# Altium schematic symbol library component.SchLib: 14 symbols
Pins are listed as number, name and electrical type; pins without a type are passive.

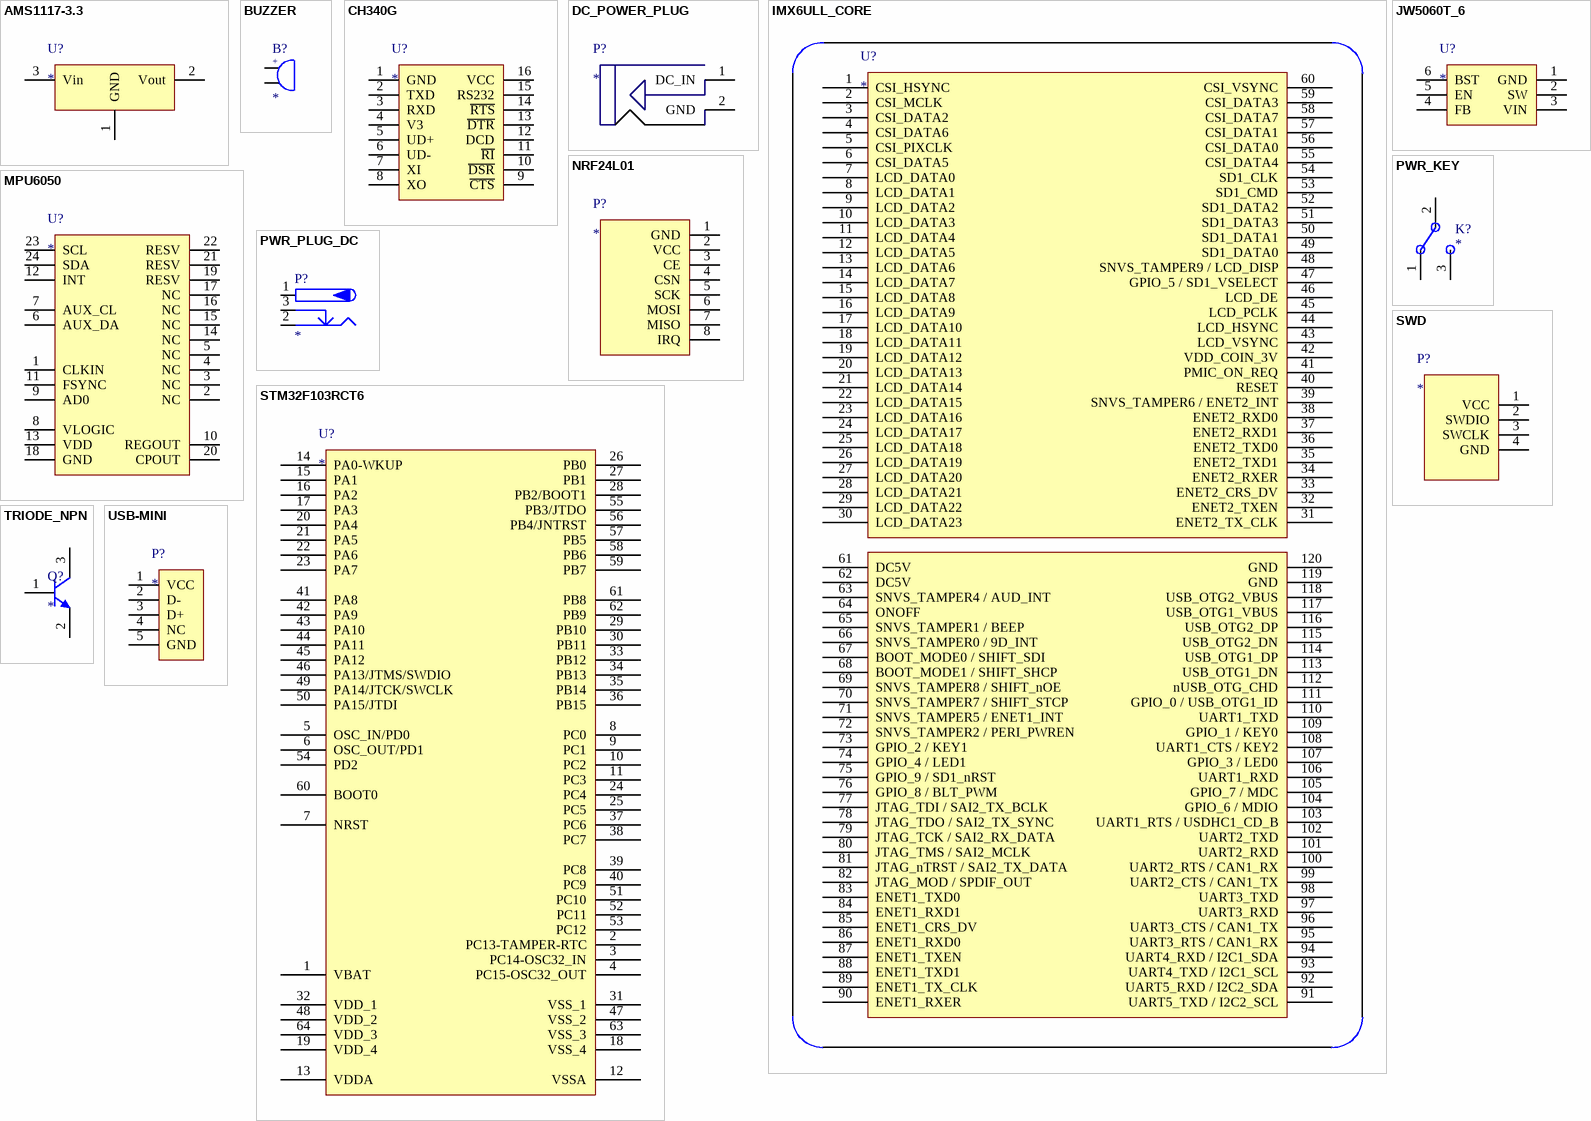
[diagram p0: symbols AMS1117-3.3 to USB-MINI]

## AMS1117-3.3
designator U?
pins: 1 GND, 2 Vout, 3 Vin

## BUZZER
designator B?
BOM名称: 蜂鸣器; 版权归属: 源创客; 学习资源: www.ooocke.com
footprint BEEP 6.5x12x6 (6.5*12*6mm(脚距,直径,高度))
footprint BEEP 5x9x5.5 (5*9*5.5mm(脚距,直径,高度))
footprint BEEP 6.5x12x8.5 (6.5*12*8.5mm(脚距,直径,高度))
footprint BEEP 7.6X12X7.5 (6.5*12*7.5mm(脚距,直径,高度))
footprint BEEP 7.6X12X9.5 (6.5*12*9.5mm(脚距,直径,高度))
pins: 1, 2
text: +

## CH340G
designator U?
pins: 1 GND, 2 TXD, 3 RXD, 4 V3, 5 UD+, 6 UD-, 7 XI, 8 XO, 9 ~{CTS}, 10 ~{DSR}, 11 ~{RI}, 12 DCD, 13 ~{DTR}, 14 ~{RTS}, 15 RS232, 16 VCC

## DC_POWER_PLUG
designator P?
pins: 1 DC_IN, 2 GND

## IMX6ULL_CORE
designator U?
pins: 1 CSI_HSYNC, 2 CSI_MCLK, 3 CSI_DATA2, 4 CSI_DATA6, 5 CSI_PIXCLK, 6 CSI_DATA5, 7 LCD_DATA0, 8 LCD_DATA1, 9 LCD_DATA2, 10 LCD_DATA3, 11 LCD_DATA4, 12 LCD_DATA5, 13 LCD_DATA6, 14 LCD_DATA7, 15 LCD_DATA8, 16 LCD_DATA9, 17 LCD_DATA10, 18 LCD_DATA11, 19 LCD_DATA12, 20 LCD_DATA13, 21 LCD_DATA14, 22 LCD_DATA15, 23 LCD_DATA16, 24 LCD_DATA17, 25 LCD_DATA18, 26 LCD_DATA19, 27 LCD_DATA20, 28 LCD_DATA21, 29 LCD_DATA22, 30 LCD_DATA23, 31 ENET2_TX_CLK, 32 ENET2_TXEN, 33 ENET2_CRS_DV, 34 ENET2_RXER, 35 ENET2_TXD1, 36 ENET2_TXD0, 37 ENET2_RXD1, 38 ENET2_RXD0, 39 SNVS_TAMPER6 / ENET2_INT, 40 RESET, 41 PMIC_ON_REQ, 42 VDD_COIN_3V, 43 LCD_VSYNC, 44 LCD_HSYNC, 45 LCD_PCLK, 46 LCD_DE, 47 GPIO_5 / SD1_VSELECT, 48 SNVS_TAMPER9 / LCD_DISP, 49 SD1_DATA0, 50 SD1_DATA1, 51 SD1_DATA3, 52 SD1_DATA2, 53 SD1_CMD, 54 SD1_CLK, 55 CSI_DATA4, 56 CSI_DATA0, 57 CSI_DATA1, 58 CSI_DATA7, 59 CSI_DATA3, 60 CSI_VSYNC, 61 DC5V, 62 DC5V, 63 SNVS_TAMPER4 / AUD_INT, 64 ONOFF, 65 SNVS_TAMPER1 / BEEP, 66 SNVS_TAMPER0 / 9D_INT, 67 BOOT_MODE0 / SHIFT_SDI, 68 BOOT_MODE1 / SHIFT_SHCP, 69 SNVS_TAMPER8 / SHIFT_nOE, 70 SNVS_TAMPER7 / SHIFT_STCP, 71 SNVS_TAMPER5 / ENET1_INT, 72 SNVS_TAMPER2 / PERI_PWREN, 73 GPIO_2 / KEY1, 74 GPIO_4 / LED1, 75 GPIO_9 / SD1_nRST, 76 GPIO_8 / BLT_PWM, 77 JTAG_TDI / SAI2_TX_BCLK, 78 JTAG_TDO / SAI2_TX_SYNC, 79 JTAG_TCK / SAI2_RX_DATA, 80 JTAG_TMS / SAI2_MCLK, 81 JTAG_nTRST / SAI2_TX_DATA, 82 JTAG_MOD / SPDIF_OUT, 83 ENET1_TXD0, 84 ENET1_RXD1, 85 ENET1_CRS_DV, 86 ENET1_RXD0, 87 ENET1_TXEN, 88 ENET1_TXD1, 89 ENET1_TX_CLK, 90 ENET1_RXER, 91 UART5_TXD / I2C2_SCL, 92 UART5_RXD / I2C2_SDA, 93 UART4_TXD / I2C1_SCL, 94 UART4_RXD / I2C1_SDA, 95 UART3_RTS / CAN1_RX, 96 UART3_CTS / CAN1_TX, 97 UART3_RXD, 98 UART3_TXD, 99 UART2_CTS / CAN1_TX, 100 UART2_RTS / CAN1_RX, 101 UART2_RXD, 102 UART2_TXD, 103 UART1_RTS / USDHC1_CD_B, 104 GPIO_6 / MDIO, 105 GPIO_7 / MDC, 106 UART1_RXD, 107 GPIO_3 / LED0, 108 UART1_CTS / KEY2, 109 GPIO_1 / KEY0, 110 UART1_TXD, 111 GPIO_0 / USB_OTG1_ID, 112 nUSB_OTG_CHD, 113 USB_OTG1_DN, 114 USB_OTG1_DP, 115 USB_OTG2_DN, 116 USB_OTG2_DP, 117 USB_OTG1_VBUS, 118 USB_OTG2_VBUS, 119 GND, 120 GND

## JW5060T_6
designator U?
pins: 1 GND, 2 SW, 3 VIN, 4 FB, 5 EN, 6 BST

## MPU6050
designator U?
pins: 1 CLKIN, 2 NC, 3 NC, 4 NC, 5 NC, 6 AUX_DA, 7 AUX_CL, 8 VLOGIC, 9 AD0, 10 REGOUT, 11 FSYNC, 12 INT, 13 VDD, 14 NC, 15 NC, 16 NC, 17 NC, 18 GND, 19 RESV, 20 CPOUT, 21 RESV, 22 RESV, 23 SCL, 24 SDA

## NRF24L01
designator P?
pins: 1 GND, 2 VCC, 3 CE, 4 CSN, 5 SCK, 6 MOSI, 7 MISO, 8 IRQ

## PWR_KEY
designator K?
footprint PKEY (4.7mm三脚卧式拨码开关)
pins: 1, 2, 3

## PWR_PLUG_DC
designator P?
BOM名称: DC电源接口; 版权归属: 源创客; 学习资源: www.ooocke.com
footprint DC-012 (5.5*2.1)
footprint DC-005 (5.5*2.1mm，DC30V,2.5A)
footprint DC-002 (3.5*1.1mm,)
footprint DC-003 (3.5*1.1mm)
footprint DC-003A (3.5*1.1mm)
footprint DC-050 (5.5*2.1)
footprint DC10B
pins: 1 (power), 2 (power), 3 (power)

## STM32F103RCT6
designator U?
pins: 1 VBAT, 2 PC13-TAMPER-RTC, 3 PC14-OSC32_IN, 4 PC15-OSC32_OUT, 5 OSC_IN/PD0, 6 OSC_OUT/PD1, 7 NRST, 8 PC0, 9 PC1, 10 PC2, 11 PC3, 12 VSSA, 13 VDDA, 14 PA0-WKUP, 15 PA1, 16 PA2, 17 PA3, 18 VSS_4, 19 VDD_4, 20 PA4, 21 PA5, 22 PA6, 23 PA7, 24 PC4, 25 PC5, 26 PB0, 27 PB1, 28 PB2/BOOT1, 29 PB10, 30 PB11, 31 VSS_1, 32 VDD_1, 33 PB12, 34 PB13, 35 PB14, 36 PB15, 37 PC6, 38 PC7, 39 PC8, 40 PC9, 41 PA8, 42 PA9, 43 PA10, 44 PA11, 45 PA12, 46 PA13/JTMS/SWDIO, 47 VSS_2, 48 VDD_2, 49 PA14/JTCK/SWCLK, 50 PA15/JTDI, 51 PC10, 52 PC11, 53 PC12, 54 PD2, 55 PB3/JTDO, 56 PB4/JNTRST, 57 PB5, 58 PB6, 59 PB7, 60 BOOT0, 61 PB8, 62 PB9, 63 VSS_3, 64 VDD_3

## SWD
designator P?
pins: 1 VCC, 2 SWDIO, 3 SWCLK, 4 GND

## TRIODE_NPN
designator Q?
pins: 1 B, 2 E, 3 C

## USB-MINI
designator P?
pins: 1 VCC, 2 D-, 3 D+, 4 NC, 5 GND